# Altium schematic symbol library WR-SMA.SchLib: 32 symbols
Pins are listed as number, name and electrical type; pins without a type are passive.

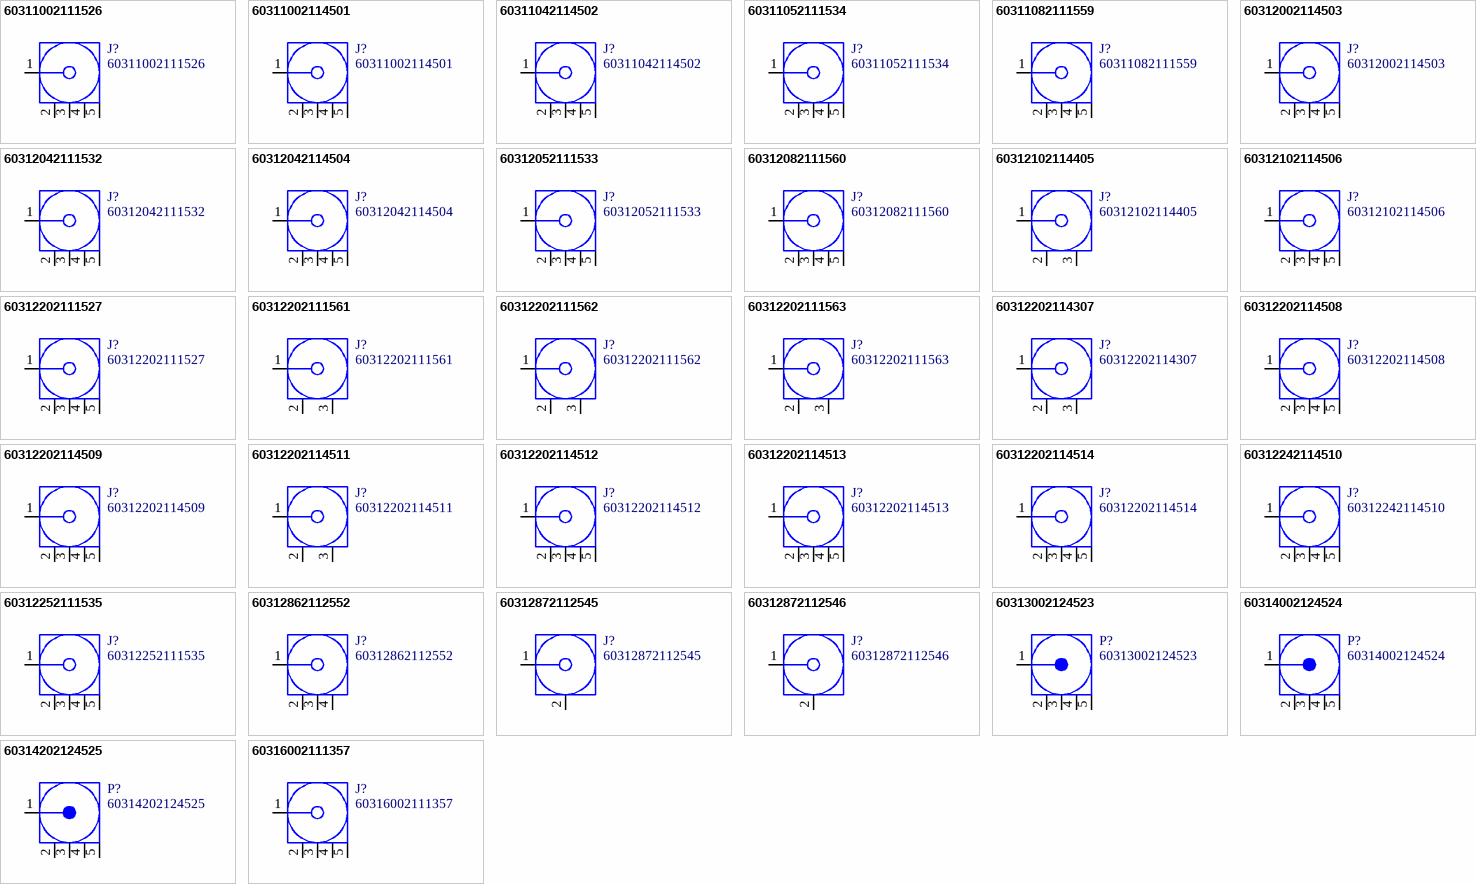
[diagram p0: symbols 60311002111526 to 60316002111357]

## 60311002111526
designator J?
WR-SMA Connector, PCB THT Jack, DC~6GHz, 50Ω; Manufacturer: Wurth Elektronik; Center Contact Diameter: 1.27mm; Connector Type: SMA; Interface Type: MIL-STD-348; Manufacturer Part Number: 60311002111526; Category: Coaxial Connector; Match Code: WR-SMA; ComponentLink1Description: Website Link; ComponentLink1URL: https://www.we-online.com/redexpert/article/60311002111526?ad; ComponentLink2Description: Datasheet Link; ComponentLink2URL: https://www.we-online.com/redexpert/spec/60311002111526?ad; Mount: Through Hole; Min Operating Temperature: -65°C; Max Operating Temperature: 165°C; Packaging: Tray; Frequency Range: DC~6GHz; Gender: Jack; Impedance: 50Ω; Orientation: Right Angle
footprint 60311002111526
pins: 1 Signal "Signal Pin", 2 GND, 3 GND, 4 GND, 5 GND

## 60311002114501
designator J?
WR-SMA Connector, PCB THT Jack, with Anti-Torque Thread, DC~18GHz, 50Ω; Manufacturer: Wurth Elektronik; Center Contact Diameter: 1.27mm; Connector Type: SMA; Interface Type: MIL-STD-348; Manufacturer Part Number: 60311002114501; Category: Coaxial Connector; Match Code: WR-SMA; ComponentLink1Description: Website Link; ComponentLink1URL: https://www.we-online.com/redexpert/article/60311002114501?ad; ComponentLink2Description: Datasheet Link; ComponentLink2URL: https://www.we-online.com/redexpert/spec/60311002114501?ad; Mount: Through Hole; Min Operating Temperature: -65°C; Max Operating Temperature: 165°C; Packaging: Tray; Frequency Range: DC~18GHz; Gender: Jack; Impedance: 50Ω; Orientation: Right Angle
footprint 60311002114501
pins: 1 Signal "Signal Pin", 2 GND, 3 GND, 4 GND, 5 GND

## 60311042114502
designator J?
WR-SMA Connector, PCB THT Jack, Rear Mount Bulkhead, DC~12.4GHz, 50Ω; Manufacturer: Wurth Elektronik; Center Contact Diameter: 1.27mm; Connector Type: SMA; Interface Type: MIL-STD-348; Manufacturer Part Number: 60311042114502; Category: Coaxial Connector; Match Code: WR-SMA; ComponentLink1Description: Website Link; ComponentLink1URL: https://www.we-online.com/redexpert/article/60311042114502?ad; ComponentLink2Description: Datasheet Link; ComponentLink2URL: https://www.we-online.com/redexpert/spec/60311042114502?ad; Mount: Through Hole; Min Operating Temperature: -65°C; Max Operating Temperature: 165°C; Packaging: Tray; Frequency Range: DC~12.4GHz; Gender: Jack; Impedance: 50Ω; Orientation: Right Angle
footprint 60311042114502
pins: 1 Signal "Signal Pin", 2 GND, 3 GND, 4 GND, 5 GND

## 60311052111534
designator J?
WR-SMA Connector, PCB THT Jack, IP67, DC~6GHz, 50Ω; Manufacturer: Wurth Elektronik; Center Contact Diameter: 1.27mm; Connector Type: SMA; Interface Type: MIL-STD-348; Manufacturer Part Number: 60311052111534; Category: Coaxial Connector; Match Code: WR-SMA; ComponentLink1Description: Website Link; ComponentLink1URL: https://www.we-online.com/redexpert/article/60311052111534?ad; ComponentLink2Description: Datasheet Link; ComponentLink2URL: https://www.we-online.com/redexpert/spec/60311052111534?ad; Mount: Through Hole; Min Operating Temperature: -65°C; Max Operating Temperature: 165°C; Packaging: Tray; Frequency Range: DC~6GHz; Gender: Jack; Impedance: 50Ω; Ingress Protection Code: IP67; Orientation: Right Angle
footprint 60311052111534
pins: 1 Signal "Signal Pin", 2 GND, 3 GND, 4 GND, 5 GND

## 60311082111559
designator J?
WR-SMA SMA PCB THT JACK UnMated IP67, DC~6GHz, 50Ω; Manufacturer: Wurth Elektronik; Center Contact Diameter: 1.27mm; Interface Type: MIL-STD-348; Manufacturer Part Number: 60311082111559; Category: Coaxial Connector; Match Code: WR-SMA; ComponentLink1Description: Website Link; ComponentLink1URL: https://www.we-online.com/redexpert/article/60311082111559?ad; ComponentLink2Description: Datasheet Link; ComponentLink2URL: https://www.we-online.com/redexpert/spec/60311082111559?ad; Mount: Through Hole; Min Operating Temperature: -65°C; Max Operating Temperature: 165°C; Packaging: Tray; Connector Type: SMA; Frequency Range: DC~6GHz; Gender: Jack; Impedance: 50Ω; Ingress Protection Code: IP67; Orientation: Right Angle
footprint 60311082111559
pins: 1 Signal "Signal Pin", 2 GND, 3 GND, 4 GND, 5 GND

## 60312002114503
designator J?
WR-SMA Connector, PCB THT Jack, DC~18GHz, 50Ω; Manufacturer: Wurth Elektronik; Center Contact Diameter: 1.27mm; Connector Type: SMA; Interface Type: MIL-STD-348; Manufacturer Part Number: 60312002114503; Category: Coaxial Connector; Match Code: WR-SMA; ComponentLink1Description: Website Link; ComponentLink1URL: https://www.we-online.com/redexpert/article/60312002114503?ad; ComponentLink2Description: Datasheet Link; ComponentLink2URL: https://www.we-online.com/redexpert/spec/60312002114503?ad; Mount: Through Hole; Min Operating Temperature: -65°C; Max Operating Temperature: 165°C; Packaging: Tray; Frequency Range: DC~18GHz; Gender: Jack; Impedance: 50Ω; Orientation: Straight
footprint 60312002114503
pins: 1 Signal "Signal Pin", 2 GND, 3 GND, 4 GND, 5 GND

## 60312042111532
designator J?
WR-SMA Connector, PCB THT Jack, Rear Mount Bulkhead 11mm, DC~6GHz, 50Ω; Manufacturer: Wurth Elektronik; Center Contact Diameter: 1.27mm; Connector Type: SMA; Interface Type: MIL-STD-348; Manufacturer Part Number: 60312042111532; Category: Coaxial Connector; Match Code: WR-SMA; ComponentLink1Description: Website Link; ComponentLink1URL: https://www.we-online.com/redexpert/article/60312042111532?ad; ComponentLink2Description: Datasheet Link; ComponentLink2URL: https://www.we-online.com/redexpert/spec/60312042111532?ad; Mount: Through Hole; Min Operating Temperature: -65°C; Max Operating Temperature: 165°C; Packaging: Tray; Frequency Range: DC~6GHz; Gender: Jack; Impedance: 50Ω; Orientation: Straight
footprint 60312042111532
pins: 1 Signal "Signal Pin", 2 GND, 3 GND, 4 GND, 5 GND

## 60312042114504
designator J?
WR-SMA Connector, PCB THT Jack, Rear Mount Bulkhead, DC~18GHz, 50Ω; Manufacturer: Wurth Elektronik; Center Contact Diameter: 1.27mm; Connector Type: SMA; Interface Type: MIL-STD-348; Manufacturer Part Number: 60312042114504; Category: Coaxial Connector; Match Code: WR-SMA; ComponentLink1Description: Website Link; ComponentLink1URL: https://www.we-online.com/redexpert/article/60312042114504?ad; ComponentLink2Description: Datasheet Link; ComponentLink2URL: https://www.we-online.com/redexpert/spec/60312042114504?ad; Mount: Through Hole; Min Operating Temperature: -65°C; Max Operating Temperature: 165°C; Packaging: Tray; Frequency Range: DC~18GHz; Gender: Jack; Impedance: 50Ω; Orientation: Straight
footprint 60312042114504
pins: 1 Signal "Signal Pin", 2 GND, 3 GND, 4 GND, 5 GND

## 60312052111533
designator J?
WR-SMA Connector, PCB THT Jack, IP67, DC~6GHz, 50Ω; Manufacturer: Wurth Elektronik; Center Contact Diameter: 1.27mm; Connector Type: SMA; Interface Type: MIL-STD-348; Manufacturer Part Number: 60312052111533; Category: Coaxial Connector; Match Code: WR-SMA; ComponentLink1Description: Website Link; ComponentLink1URL: https://www.we-online.com/redexpert/article/60312052111533?ad; ComponentLink2Description: Datasheet Link; ComponentLink2URL: https://www.we-online.com/redexpert/spec/60312052111533?ad; Mount: Through Hole; Min Operating Temperature: -65°C; Max Operating Temperature: 165°C; Packaging: Tray; Frequency Range: DC~6GHz; Gender: Jack; Impedance: 50Ω; Ingress Protection Code: IP67; Orientation: Straight
footprint 60312052111533
pins: 1 Signal "Signal Pin", 2 GND, 3 GND, 4 GND, 5 GND

## 60312082111560
designator J?
WR-SMA SMA PCB THT JACK UnMated IP67, DC~6GHz, 50Ω; Manufacturer: Wurth Elektronik; Center Contact Diameter: 1.27mm; Interface Type: MIL-STD-348; Manufacturer Part Number: 60312082111560; Category: Coaxial Connector; Match Code: WR-SMA; ComponentLink1Description: Website Link; ComponentLink1URL: https://www.we-online.com/redexpert/article/60312082111560?ad; ComponentLink2Description: Datasheet Link; ComponentLink2URL: https://www.we-online.com/redexpert/spec/60312082111560?ad; Mount: Through Hole; Min Operating Temperature: -65°C; Max Operating Temperature: 165°C; Packaging: Tray; Connector Type: SMA; Frequency Range: DC~6GHz; Gender: Jack; Impedance: 50Ω; Ingress Protection Code: IP67; Orientation: Straight
footprint 60312082111560
pins: 1 Signal "Signal Pin", 2 GND, 3 GND, 4 GND, 5 GND

## 60312102114405
designator J?
WR-SMA Connector, PCB SMT Jack, DC~18GHz, 50Ω; Manufacturer: Wurth Elektronik; Center Contact Diameter: 1.27mm; Connector Type: SMA; Interface Type: MIL-STD-348; Manufacturer Part Number: 60312102114405; Category: Coaxial Connector; Match Code: WR-SMA; ComponentLink1Description: Website Link; ComponentLink1URL: https://www.we-online.com/redexpert/article/60312102114405?ad; ComponentLink2Description: Datasheet Link; ComponentLink2URL: https://www.we-online.com/redexpert/spec/60312102114405?ad; Mount: Surface Mount; Min Operating Temperature: -65°C; Max Operating Temperature: 165°C; Packaging: Tape and Reel; Frequency Range: DC~18GHz; Gender: Jack; Impedance: 50Ω; Orientation: Straight
footprint 60312102114405
pins: 1 Signal "Signal Pin", 2 GND, 3 GND

## 60312102114506
designator J?
WR-SMA Connector, PCB THR Jack, DC~18GHz, 50Ω; Manufacturer: Wurth Elektronik; Center Contact Diameter: 1.27mm; Connector Type: SMA; Interface Type: MIL-STD-348; Category: Coaxial Connector; Match Code: WR-SMA; ComponentLink1Description: Website Link; ComponentLink1URL: https://www.we-online.com/redexpert/article/60312102114506?ad; ComponentLink2Description: Datasheet Link; ComponentLink2URL: https://www.we-online.com/redexpert/spec/60312102114506?ad; Mount: Through Hole Reflow; Min Operating Temperature: -65°C; Max Operating Temperature: 165°C; Packaging: Tray; Frequency Range: DC~18GHz; Gender: Jack; Impedance: 50Ω; Orientation: Straight; Manufacturer Part Number: 60312102114506
footprint 60312102114506
pins: 1 Signal "Signal Pin", 2 GND, 3 GND, 4 GND, 5 GND

## 60312202111527
designator J?
WR-SMA Connector, PCB End Launch Jack, 6.35SQ Flange Round Post for PCB 1.6mm, DC~18GHz, 50Ω; Manufacturer: Wurth Elektronik; Center Contact Diameter: 0.76mm; Connector Type: SMA; Interface Type: MIL-STD-348; Manufacturer Part Number: 60312202111527; Category: Coaxial Connector; Match Code: WR-SMA; ComponentLink1Description: Website Link; ComponentLink1URL: https://www.we-online.com/redexpert/article/60312202111527?ad; ComponentLink2Description: Datasheet Link; ComponentLink2URL: https://www.we-online.com/redexpert/spec/60312202111527?ad; Mount: Surface Mount; Min Operating Temperature: -65°C; Max Operating Temperature: 165°C; Packaging: Tray; Frequency Range: DC~18GHz; Gender: Jack; Impedance: 50Ω; Orientation: Straight
footprint 60312202111527
pins: 1 Signal "Signal Pin", 2 GND, 3 GND, 4 GND, 5 GND

## 60312202111561
designator J?
WR-SMA SMA PCB End Launch Jack, DC~18GHz, 50Ω; Manufacturer: Wurth Elektronik; Center Contact Diameter: 0.25mm; Interface Type: MIL-STD-348; Manufacturer Part Number: 60312202111561; Category: Coaxial Connector; Match Code: WR-SMA; ComponentLink1Description: Website Link; ComponentLink1URL: https://www.we-online.com/redexpert/article/60312202111561?ad; ComponentLink2Description: Datasheet Link; ComponentLink2URL: https://www.we-online.com/redexpert/spec/60312202111561?ad; Mount: Surface Mount; Min Operating Temperature: -65°C; Max Operating Temperature: 165°C; Packaging: Tray; Connector Type: SMA; Frequency Range: DC~18GHz; Gender: Jack; Impedance: 50Ω; Orientation: Straight
footprint 60312202111561
pins: 1 Signal "Signal Pin", 2 GND, 3 GND

## 60312202111562
designator J?
WR-SMA SMA PCB End Launch Jack, DC~18GHz, 50Ω; Manufacturer: Wurth Elektronik; Center Contact Diameter: 0.3mm; Interface Type: MIL-STD-348; Manufacturer Part Number: 60312202111562; Category: Coaxial Connector; Match Code: WR-SMA; ComponentLink1Description: Website Link; ComponentLink1URL: https://www.we-online.com/redexpert/article/60312202111562?ad; ComponentLink2Description: Datasheet Link; ComponentLink2URL: https://www.we-online.com/redexpert/spec/60312202111562?ad; Mount: Surface Mount; Min Operating Temperature: -65°C; Max Operating Temperature: 165°C; Packaging: Tray; Connector Type: SMA; Frequency Range: DC~18GHz; Gender: Jack; Impedance: 50Ω; Orientation: Straight
footprint 60312202111562
pins: 1 Signal "Signal Pin", 2 GND, 3 GND

## 60312202111563
designator J?
WR-SMA SMA PCB End Launch Jack, DC~18GHz, 50Ω; Manufacturer: Wurth Elektronik; Center Contact Diameter: 0.25mm; Interface Type: MIL-STD-348; Manufacturer Part Number: 60312202111563; Category: Coaxial Connector; Match Code: WR-SMA; ComponentLink1Description: Website Link; ComponentLink1URL: https://www.we-online.com/redexpert/article/60312202111563?ad; ComponentLink2Description: Datasheet Link; ComponentLink2URL: https://www.we-online.com/redexpert/spec/60312202111563?ad; Mount: Surface Mount; Min Operating Temperature: -65°C; Max Operating Temperature: 165°C; Packaging: Tray; Connector Type: SMA; Frequency Range: DC~18GHz; Gender: Jack; Impedance: 50Ω; Orientation: Straight
footprint 60312202111563
pins: 1 Signal "Signal Pin", 2 GND, 3 GND

## 60312202114307
designator J?
WR-SMA Connector, PCB End Launch Jack, Edge Card for PCB 1.6mm Max., DC~18GHz, 50Ω; Manufacturer: Wurth Elektronik; Center Contact Diameter: 0.76mm; Connector Type: SMA; Interface Type: MIL-STD-348; Manufacturer Part Number: 60312202114307; Category: Coaxial Connector; Match Code: WR-SMA; ComponentLink1Description: Website Link; ComponentLink1URL: https://www.we-online.com/redexpert/article/60312202114307?ad; ComponentLink2Description: Datasheet Link; ComponentLink2URL: https://www.we-online.com/redexpert/spec/60312202114307?ad; Mount: Surface Mount; Min Operating Temperature: -65°C; Max Operating Temperature: 165°C; Packaging: Tape and Reel; Frequency Range: DC~18GHz; Gender: Jack; Impedance: 50Ω; Orientation: Straight
footprint 60312202114307
pins: 1 Signal "Signal Pin", 2 GND, 3 GND

## 60312202114508
designator J?
WR-SMA Connector, PCB End Launch Jack, 6.35SQ Flange Round Post for PCB 1.1mm, DC~18GHz, 50Ω; Manufacturer: Wurth Elektronik; Center Contact Diameter: 0.76mm; Connector Type: SMA; Interface Type: MIL-STD-348; Manufacturer Part Number: 60312202114508; Category: Coaxial Connector; Match Code: WR-SMA; ComponentLink1Description: Website Link; ComponentLink1URL: https://www.we-online.com/redexpert/article/60312202114508?ad; ComponentLink2Description: Datasheet Link; ComponentLink2URL: https://www.we-online.com/redexpert/spec/60312202114508?ad; Mount: Surface Mount; Min Operating Temperature: -65°C; Max Operating Temperature: 165°C; Packaging: Tray; Frequency Range: DC~18GHz; Gender: Jack; Impedance: 50Ω; Orientation: Straight
footprint 60312202114508
pins: 1 Signal "Signal Pin", 2 GND, 3 GND, 4 GND, 5 GND

## 60312202114509
designator J?
WR-SMA Connector, PCB End Launch Jack, Round Post for PCB 1.6mm, DC~18GHz, 50Ω; Manufacturer: Wurth Elektronik; Center Contact Diameter: 0.76mm; Connector Type: SMA; Interface Type: MIL-STD-348; Manufacturer Part Number: 60312202114509; Category: Coaxial Connector; Match Code: WR-SMA; ComponentLink1Description: Website Link; ComponentLink1URL: https://www.we-online.com/redexpert/article/60312202114509?ad; ComponentLink2Description: Datasheet Link; ComponentLink2URL: https://www.we-online.com/redexpert/spec/60312202114509?ad; Mount: Surface Mount; Min Operating Temperature: -65°C; Max Operating Temperature: 165°C; Packaging: Tray; Frequency Range: DC~18GHz; Gender: Jack; Impedance: 50Ω; Orientation: Straight
footprint 60312202114509
pins: 1 Signal "Signal Pin", 2 GND, 3 GND, 4 GND, 5 GND

## 60312202114511
designator J?
WR-SMA Connector, PCB End Launch Jack, Flat Tab with THT Grounding Pins for PCB 2.8mm Max., DC~18GHz, 50Ω; Manufacturer: Wurth Elektronik; Center Contact Diameter: 0.51 WIDE x 0.25 THK; Connector Type: SMA; Interface Type: MIL-STD-348; Manufacturer Part Number: 60312202114511; Category: Coaxial Connector; Match Code: WR-SMA; ComponentLink1Description: Website Link; ComponentLink1URL: https://www.we-online.com/redexpert/article/60312202114511?ad; ComponentLink2Description: Datasheet Link; ComponentLink2URL: https://www.we-online.com/redexpert/spec/60312202114511?ad; Mount: Surface Mount; Min Operating Temperature: -65°C; Max Operating Temperature: 165°C; Packaging: Tray; Frequency Range: DC~18GHz; Gender: Jack; Impedance: 50Ω; Orientation: Straight
footprint 60312202114511
pins: 1 Signal "Signal Pin", 2 GND, 3 GND

## 60312202114512
designator J?
WR-SMA Connector, PCB End Launch Jack, Flat Tab for 1.1mm, DC~18GHz, 50Ω; Manufacturer: Wurth Elektronik; Center Contact Diameter: 0.51 WIDE x 0.25 THK; Connector Type: SMA; Interface Type: MIL-STD-348; Manufacturer Part Number: 60312202114512; Category: Coaxial Connector; Match Code: WR-SMA; ComponentLink1Description: Website Link; ComponentLink1URL: https://www.we-online.com/redexpert/article/60312202114512?ad; ComponentLink2Description: Datasheet Link; ComponentLink2URL: https://www.we-online.com/redexpert/spec/60312202114512?ad; Mount: Surface Mount; Min Operating Temperature: -65°C; Max Operating Temperature: 165°C; Packaging: Tray; Frequency Range: DC~18GHz; Gender: Jack; Impedance: 50Ω; Orientation: Straight
footprint 60312202114512
pins: 1 Signal "Signal Pin", 2 GND, 3 GND, 4 GND, 5 GND

## 60312202114513
designator J?
WR-SMA Connector, PCB End Launch Jack, 6.35SQ Flange Flat Tab 1.6mm, DC~18GHz, 50Ω; Manufacturer: Wurth Elektronik; Center Contact Diameter: 0.51 WIDE x 0.25 THK; Connector Type: SMA; Interface Type: MIL-STD-348; Manufacturer Part Number: 60312202114513; Category: Coaxial Connector; Match Code: WR-SMA; ComponentLink1Description: Website Link; ComponentLink1URL: https://www.we-online.com/redexpert/article/60312202114513?ad; ComponentLink2Description: Datasheet Link; ComponentLink2URL: https://www.we-online.com/redexpert/spec/60312202114513?ad; Mount: Surface Mount; Min Operating Temperature: -65°C; Max Operating Temperature: 165°C; Packaging: Tray; Frequency Range: DC~18GHz; Gender: Jack; Impedance: 50Ω; Orientation: Straight
footprint 60312202114513
pins: 1 Signal "Signal Pin", 2 GND, 3 GND, 4 GND, 5 GND

## 60312202114514
designator J?
WR-SMA Connector, PCB End Launch Jack, Flat Tab for PCB 1.6mm, DC~18GHz, 50Ω; Manufacturer: Wurth Elektronik; Center Contact Diameter: 0.51 WIDE x 0.25 THK; Connector Type: SMA; Interface Type: MIL-STD-348; Manufacturer Part Number: 60312202114514; Category: Coaxial Connector; Match Code: WR-SMA; ComponentLink1Description: Website Link; ComponentLink1URL: https://www.we-online.com/redexpert/article/60312202114514?ad; ComponentLink2Description: Datasheet Link; ComponentLink2URL: https://www.we-online.com/redexpert/spec/60312202114514?ad; Mount: Surface Mount; Min Operating Temperature: -65°C; Max Operating Temperature: 165°C; Packaging: Tray; Frequency Range: DC~18GHz; Gender: Jack; Impedance: 50Ω; Orientation: Straight
footprint 60312202114514
pins: 1 Signal "Signal Pin", 2 GND, 3 GND, 4 GND, 5 GND

## 60312242114510
designator J?
WR-SMA Connector, PCB End Launch Jack, Round Post Rear Mount Bulkhead for PCB 1.6mm, DC~18GHz, 50Ω; Manufacturer: Wurth Elektronik; Center Contact Diameter: 0.76mm; Connector Type: SMA; Interface Type: MIL-STD-348; Manufacturer Part Number: 60312242114510; Category: Coaxial Connector; Match Code: WR-SMA; ComponentLink1Description: Website Link; ComponentLink1URL: https://www.we-online.com/redexpert/article/60312242114510?ad; ComponentLink2Description: Datasheet Link; ComponentLink2URL: https://www.we-online.com/redexpert/spec/60312242114510?ad; Mount: Surface Mount; Min Operating Temperature: -65°C; Max Operating Temperature: 165°C; Packaging: Tray; Frequency Range: DC~18GHz; Gender: Jack; Impedance: 50Ω; Orientation: Straight
footprint 60312242114510
pins: 1 Signal "Signal Pin", 2 GND, 3 GND, 4 GND, 5 GND

## 60312252111535
designator J?
WR-SMA Connector, PCB End Launch Jack, IP67, DC~6GHz, 50Ω; Manufacturer: Wurth Elektronik; Center Contact Diameter: 0.51 WIDE x 0.25 THK; Connector Type: SMA; Interface Type: MIL-STD-348; Manufacturer Part Number: 60312252111535; Category: Coaxial Connector; Match Code: WR-SMA; ComponentLink1Description: Website Link; ComponentLink1URL: https://www.we-online.com/redexpert/article/60312252111535?ad; ComponentLink2Description: Datasheet Link; ComponentLink2URL: https://www.we-online.com/redexpert/spec/60312252111535?ad; Mount: Surface Mount; Min Operating Temperature: -65°C; Max Operating Temperature: 165°C; Packaging: Tray; Frequency Range: DC~6GHz; Gender: Jack; Impedance: 50Ω; Orientation: Straight
footprint 60312252111535
pins: 1 Signal "Signal Pin", 2 GND, 3 GND, 4 GND, 5 GND

## 60312862112552
designator J?
WR-SMA Connector, PCB Solderless, DC~18GHz, 50Ω; Manufacturer: Wurth Elektronik; Center Contact Diameter: 0.25mm; Connector Type: SMA; Gender: Jack; Interface Type: MIL-STD-348; Manufacturer Part Number: 60312862112552; Category: Coaxial Connector; Match Code: WR-SMA; ComponentLink1Description: Website Link; ComponentLink1URL: https://www.we-online.com/redexpert/article/60312862112552?ad; ComponentLink2Description: Datasheet Link; ComponentLink2URL: https://www.we-online.com/redexpert/spec/60312862112552?ad; Mount: Screw; Min Operating Temperature: -65°C; Max Operating Temperature: 165°C; Packaging: Tray; Frequency Range: DC~18GHz; Impedance: 50Ω; Orientation: Right Angle
footprint 60312862112552
pins: 1 Signal "Signal Pin", 2 GND, 3 GND, 4 GND

## 60312872112545
designator J?
WR-SMA Connector, PCB Solderless, DC~27GHz, 50Ω; Manufacturer: Wurth Elektronik; Center Contact Diameter: 0.51mm; Connector Type: SMA; Gender: Jack; Interface Type: MIL-STD-348; Manufacturer Part Number: 60312872112545; Category: Coaxial Connector; Match Code: WR-SMA; ComponentLink1Description: Website Link; ComponentLink1URL: https://www.we-online.com/redexpert/article/60312872112545?ad; ComponentLink2Description: Datasheet Link; ComponentLink2URL: https://www.we-online.com/redexpert/spec/60312872112545?ad; Mount: Screw; Min Operating Temperature: -65°C; Max Operating Temperature: 165°C; Packaging: Tray; Frequency Range: DC~27GHz; Impedance: 50Ω; Orientation: Straight
footprint 60312872112545
pins: 1 Signal "Signal Pin", 2 GND

## 60312872112546
designator J?
WR-SMA Connector, PCB Solderless, DC~27GHz, 50Ω; Manufacturer: Wurth Elektronik; Center Contact Diameter: 0.51mm; Connector Type: SMA; Gender: Jack; Interface Type: MIL-STD-348; Manufacturer Part Number: 60312872112546; Category: Coaxial Connector; Match Code: WR-SMA; ComponentLink1Description: Website Link; ComponentLink1URL: https://www.we-online.com/redexpert/article/60312872112546?ad; ComponentLink2Description: Datasheet Link; ComponentLink2URL: https://www.we-online.com/redexpert/spec/60312872112546?ad; Mount: Screw; Min Operating Temperature: -65°C; Max Operating Temperature: 165°C; Packaging: Tray; Frequency Range: DC~27GHz; Impedance: 50Ω; Orientation: Straight
footprint 60312872112546
pins: 1 Signal "Signal Pin", 2 GND

## 60313002124523
designator P?
WR-SMA Connector, PCB THT Plug, DC~18GHz, 50Ω; Manufacturer: Wurth Elektronik; Center Contact Diameter: 1.27mm; Connector Type: SMA; Interface Type: MIL-STD-348; Manufacturer Part Number: 60313002124523; Category: Coaxial Connector; Match Code: WR-SMA; ComponentLink1Description: Website Link; ComponentLink1URL: https://www.we-online.com/redexpert/article/60313002124523?ad; ComponentLink2Description: Datasheet Link; ComponentLink2URL: https://www.we-online.com/redexpert/spec/60313002124523?ad; Mount: Through Hole; Min Operating Temperature: -65°C; Max Operating Temperature: 165°C; Packaging: Tray; Frequency Range: DC~18GHz; Gender: Plug; Impedance: 50Ω; Orientation: Right Angle
footprint 60313002124523
pins: 1 Signal "Signal Pin", 2 GND, 3 GND, 4 GND, 5 GND

## 60314002124524
designator P?
WR-SMA Connector, PCB THT Plug, DC~18GHz, 50Ω; Manufacturer: Wurth Elektronik; Center Contact Diameter: 1.27mm; Connector Type: SMA; Interface Type: MIL-STD-348; Manufacturer Part Number: 60314002124524; Category: Coaxial Connector; Match Code: WR-SMA; ComponentLink1Description: Website Link; ComponentLink1URL: https://www.we-online.com/redexpert/article/60314002124524?ad; ComponentLink2Description: Datasheet Link; ComponentLink2URL: https://www.we-online.com/redexpert/spec/60314002124524?ad; Mount: Through Hole; Min Operating Temperature: -65°C; Max Operating Temperature: 165°C; Packaging: Tray; Frequency Range: DC~18GHz; Gender: Plug; Impedance: 50Ω; Orientation: Straight
footprint 60314002124524
pins: 1 Signal "Signal Pin", 2 GND, 3 GND, 4 GND, 5 GND

## 60314202124525
designator P?
WR-SMA Connector, PCB End Launch Plug, Round Post for PCB 1.6mm, DC~18GHz, 50Ω; Manufacturer: Wurth Elektronik; Center Contact Diameter: 0.76mm; Connector Type: SMA; Interface Type: MIL-STD-348; Manufacturer Part Number: 60314202124525; Category: Coaxial Connector; Match Code: WR-SMA; ComponentLink1Description: Website Link; ComponentLink1URL: https://www.we-online.com/redexpert/article/60314202124525?ad; ComponentLink2Description: Datasheet Link; ComponentLink2URL: https://www.we-online.com/redexpert/spec/60314202124525?ad; Mount: Surface Mount; Min Operating Temperature: -65°C; Max Operating Temperature: 165°C; Packaging: Tray; Frequency Range: DC~18GHz; Gender: Plug; Impedance: 50Ω; Orientation: Straight
footprint 60314202124525
pins: 1 Signal "Signal Pin", 2 GND, 3 GND, 4 GND, 5 GND

## 60316002111357
designator J?
WR-SMA SMA PCB THR Jack, DC~12.4GHz, 50Ω; Manufacturer: Wurth Elektronik; Center Contact Diameter: 1.27mm; Interface Type: MIL-STD-348; Manufacturer Part Number: 60316002111357; Category: Coaxial Connector; Match Code: WR-SMA; ComponentLink1Description: Website Link; ComponentLink1URL: https://www.we-online.com/redexpert/article/60316002111357?ad; ComponentLink2Description: Datasheet Link; ComponentLink2URL: https://www.we-online.com/redexpert/spec/60316002111357?ad; Mount: Through Hole Reflow; Min Operating Temperature: -65°C; Max Operating Temperature: 165°C; Packaging: Tape and Reel; Connector Type: SMA; Frequency Range: DC~12.4GHz; Gender: Jack; Impedance: 50Ω; Orientation: Right Angle
footprint 60316002111357
pins: 1 Signal "Signal Pin", 2 GND, 3 GND, 4 GND, 5 GND